# Altium footprint library JR78201054ZBWJ_20170508.PcbLib: 21 footprints (part 2 of 2)
Each footprint in its own frame and in the unit in brackets; x right, y up, seen from the top. Pads: shape width x height; smd on the part's side, far side on the other; paste and mask are expansions set on the pad; w line width, h text height; cw(c..) or ccw(c..) is an arc to the next point about the centre after c.
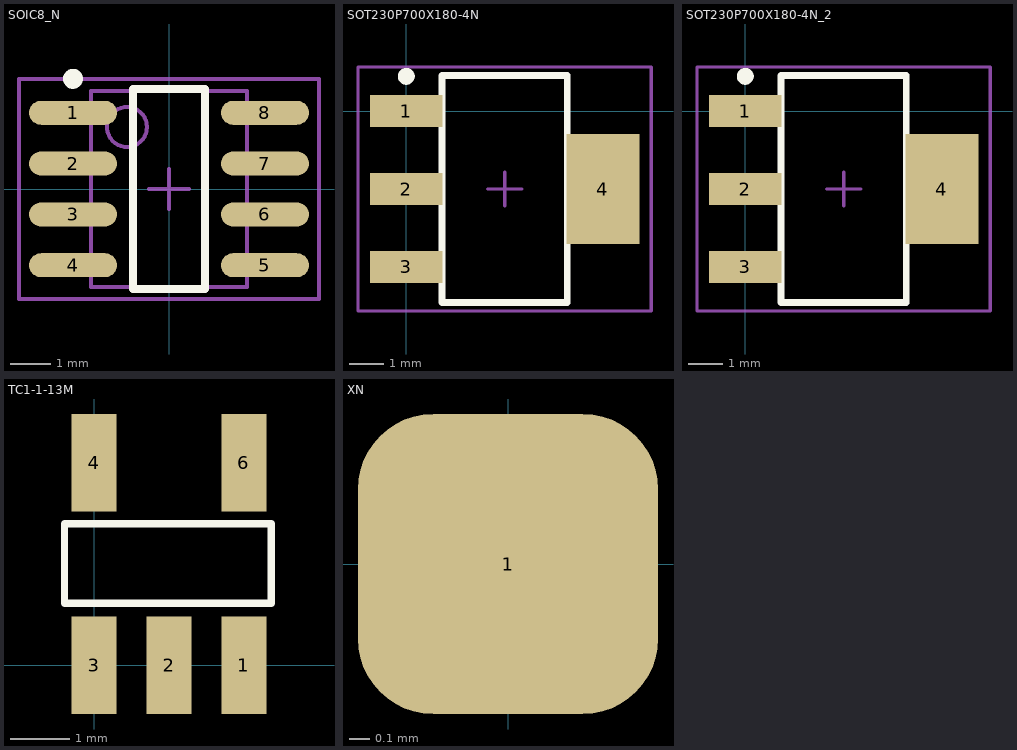
[diagram p1: the footprints below, top view; thin cyan lines are the x and y axes]

## SOIC8_N [mm] "SOIC, 8-Leads, Body 4.9x3.9mm, Pitch 1.27mm, IPC Medium Density"
height 1.75
pads (8):
  oval 2.2x0.6 smd: 1(-2.4,1.905) 2(-2.4,0.635) 3(-2.4,-0.635) 4(-2.4,-1.905) 5(2.4,-1.905) 6(2.4,-0.635) 7(2.4,0.635) 8(2.4,1.905)
Top Overlay:
  circle w0.25: c-2.4,2.755 r0.125
  lines w0.2: -0.9,-2.5 0.9,-2.5 0.9,2.5 -0.9,2.5 -0.9,-2.5
Mechanical 13:
  circle w0.1: c-1.05,1.55 r0.5
  lines w0.1: -1.95,-2.45 1.95,-2.45 1.95,2.45 -1.95,2.45 -1.95,-2.45
Mechanical 15:
  lines w0.1: -0.5,0 0.5,0 ; 0,-0.5 0,0.5 ; -3.75,-2.75 3.75,-2.75 3.75,2.75 -3.75,2.75 -3.75,-2.75
3D body: height 1.75, standoff 0, extent -1.95,-2.45 1.95,2.45

## SOT230P700X180-4N [mm] "SOT223, 4-Leads, Body 6.7x7.3mm (max), Pitch 2.30mm, IPC Medium Density"
height 1.8
pads (4):
  rect 2.15x0.95 smd: 1(0,0) 2(0,-2.3) 3(0,-4.6)
  rect 2.15x3.25 smd: 4(5.8,-2.3)
Top Overlay:
  circle w0.25: c0,1.025 r0.125
  lines w0.2: 1.05,-5.65 1.05,1.05 4.75,1.05 4.75,-5.65 1.05,-5.65
Mechanical 13:
  lines w0.1: 1.05,-5.65 1.05,1.05 4.75,1.05 4.75,-5.65 1.05,-5.65
Mechanical 15:
  lines w0.1: 2.4,-2.3 3.4,-2.3 ; 2.9,-2.8 2.9,-1.8 ; -1.425,-5.9 -1.425,1.3 7.225,1.3 7.225,-5.9 -1.425,-5.9
3D body: height 1.8, standoff 0.02, extent 1.05,-5.65 4.75,1.05

## SOT230P700X180-4N_2 [mm]
pads (4):
  rect 2.15x0.95 smd: 1(0,0) 2(0,-2.3) 3(0,-4.6)
  rect 2.15x3.25 smd: 4(5.8,-2.3)
Top Overlay:
  circle w0.25: c0,1.025 r0.125
  lines w0.2: 1.05,-5.65 4.75,-5.65 4.75,1.05 1.05,1.05 1.05,-5.65
Mechanical 13:
  lines w0.1: 1.05,-5.65 4.75,-5.65 4.75,1.05 1.05,1.05 1.05,-5.65
Mechanical 15:
  lines w0.1: 2.4,-2.3 3.4,-2.3 ; 2.9,-2.8 2.9,-1.8 ; -1.425,-5.9 7.225,-5.9 7.225,1.3 -1.425,1.3 -1.425,-5.9
3D body: height 1.8, standoff 0.02, extent 1.05,-5.65 4.75,1.05

## TC1-1-13M [mm]
height 3.81
pads (5):
  rect 0.76x1.65 smd: 1(2.54,0) 2(1.27,0) 3(0,0) 4(0,3.433) 6(2.54,3.433)
Top Overlay:
  lines w0.125: -0.5,1.05 3,1.05 3,2.4 -0.5,2.4 -0.5,1.05

## XN [mm]
pads (1):
  rrect50% 1.5x1.5 smd: 1(0,0)